# Altium footprint library 2017-10-30_10-27-00.PcbLib: 1 footprints
Each footprint in its own frame and in the unit in brackets; x right, y up, seen from the top. Pads: shape width x height; smd on the part's side, far side on the other; paste and mask are expansions set on the pad; w line width, h text height; cw(c..) or ccw(c..) is an arc to the next point about the centre after c.
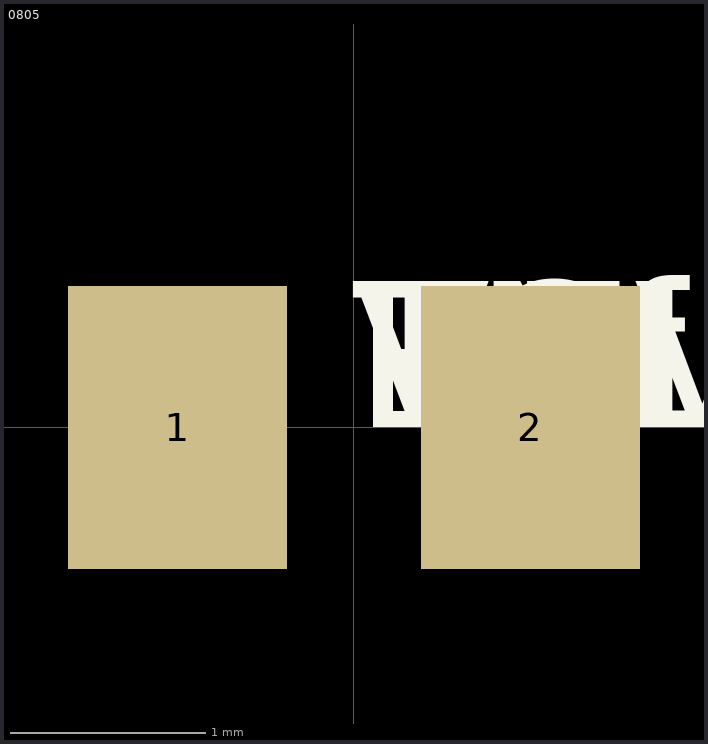
[diagram p0: the footprint, top view; thin cyan lines are the x and y axes]

## 0805 [mil]
pads (2):
  rect 44x57 smd: 1(-35.5,0) 2(35.5,0)
Top Overlay:
  text "RefDes" at 0,0 h50
  text "DEV" at 0,0 h50
  text "PN" at 0,0 h50
  text "DEV" at 0,0 h50
  text "VAL" at 0,0 h50
  text "TOL" at 0,0 h50